# Altium schematic symbol library CAP-NP.Schlib: 1 symbol
Pins are listed as number, name and electrical type; pins without a type are passive.

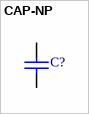
[diagram p0: symbol CAP-NP]

## CAP-NP
designator C?
Capacitor
pins: 1, 2